# Altium footprint library mrsl.PcbLib: 215 footprints (part 13 of 14)
Each footprint in its own frame and in the unit in brackets; x right, y up, seen from the top. Pads: shape width x height; smd on the part's side, far side on the other; paste and mask are expansions set on the pad; w line width, h text height; cw(c..) or ccw(c..) is an arc to the next point about the centre after c.
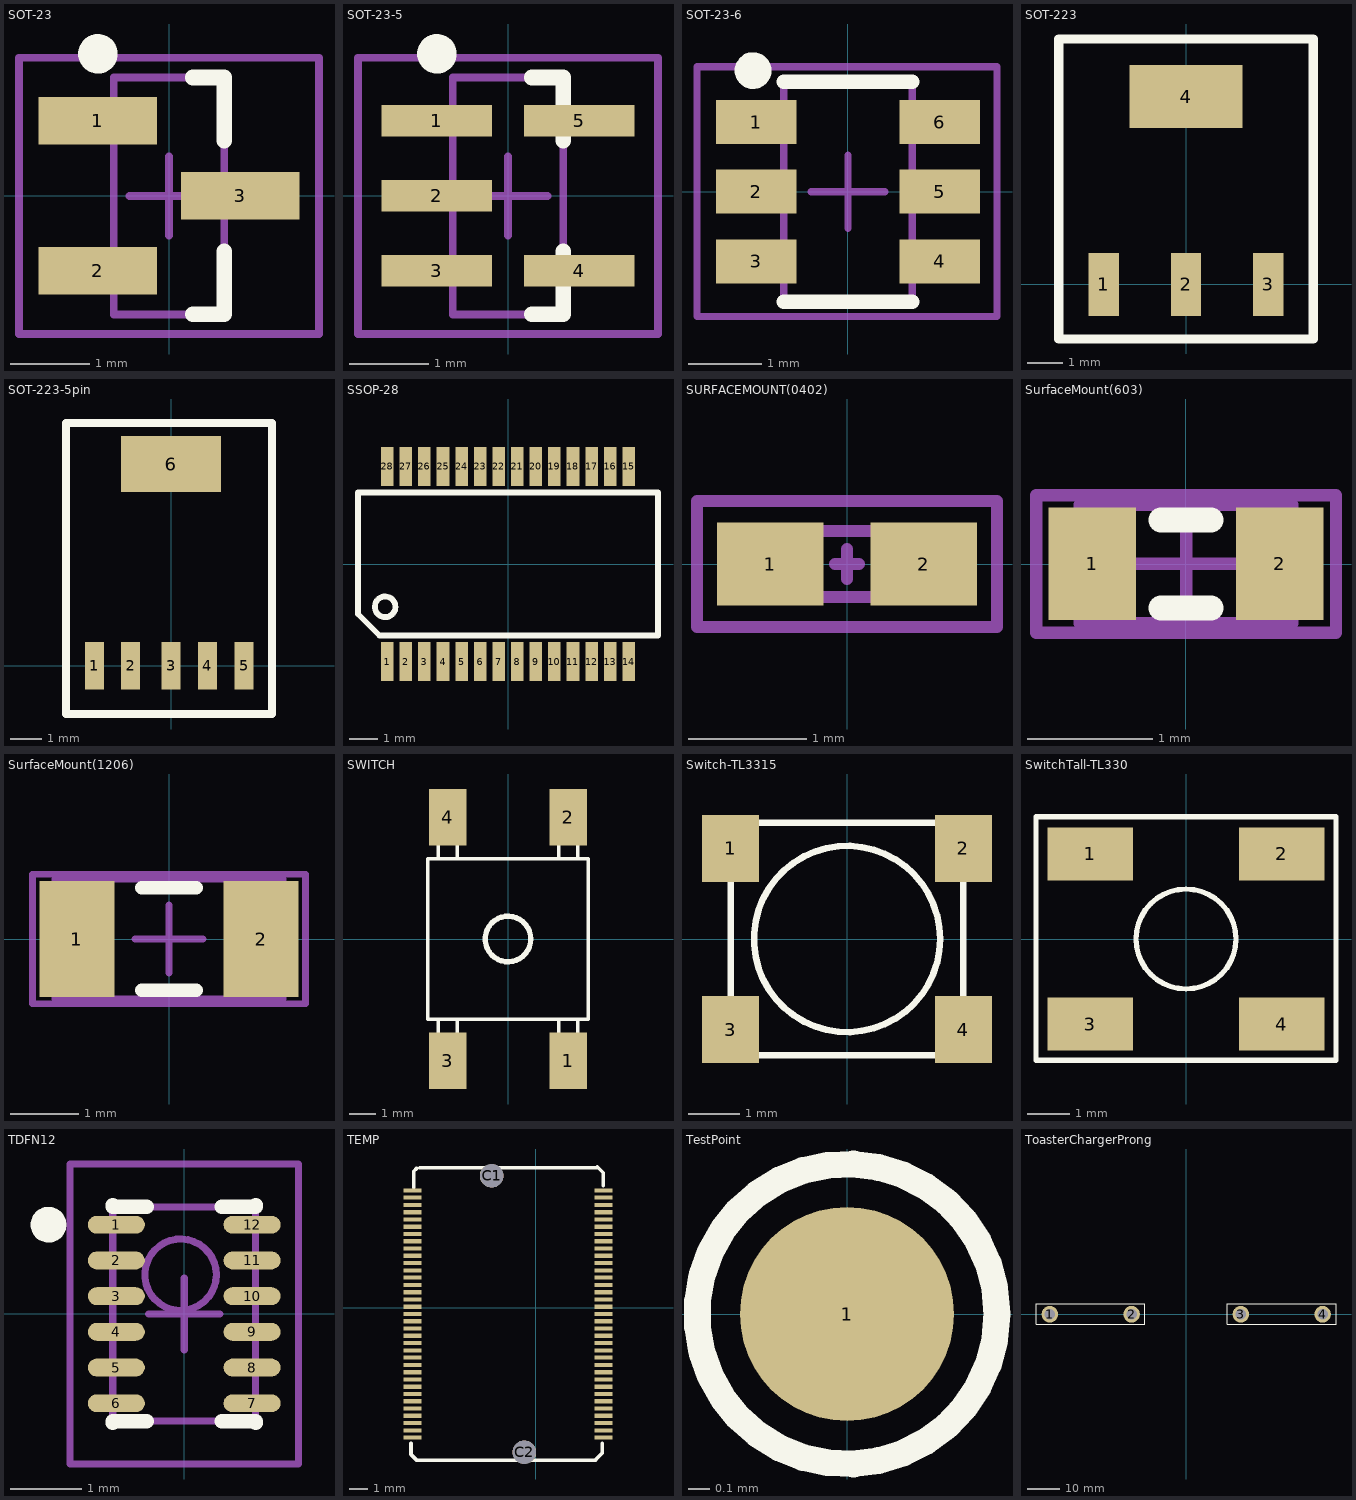
[diagram p12: the footprints below, top view; thin cyan lines are the x and y axes]

## SOT-23 [mm] "SOT23, 3-Leads, Body 3.0x2.5mm (max), Pitch 0.95mm, IPC Medium Density"
height 1.2
pads (3):
  rect 1.5x0.6 smd: 1(-0.9,0.95) 2(-0.9,-0.95) 3(0.9,0)
Top Overlay:
  circle w0.25: c-0.9,1.8 r0.125
  lines w0.2: 0.3,-1.5 0.7,-1.5 0.7,-0.7 ; 0.3,1.5 0.7,1.5 0.7,0.7
Mechanical 13:
  lines w0.1: -0.7,-1.5 -0.7,1.5 0.7,1.5 0.7,-1.5 -0.7,-1.5
Mechanical 15:
  lines w0.1: -0.5,0 0.5,0 ; 0,-0.5 0,0.5 ; -1.9,-1.75 -1.9,1.75 1.9,1.75 1.9,-1.75 -1.9,-1.75
3D body: height 1.2, standoff 0.01, extent -0.7,-1.5 0.7,1.5

## SOT-23-5 [mm] "A SOT-23 package with 5 pins"
pads (5):
  rect 1.4x0.4 smd: 1(-0.9,0.95) 2(-0.9,0) 3(-0.9,-0.95) 4(0.9,-0.95) 5(0.9,0.95)
Top Overlay:
  circle w0.25: c-0.9,1.8 r0.125
  lines w0.2: 0.3,-1.5 0.7,-1.5 0.7,-0.7 ; 0.3,1.5 0.7,1.5 0.7,0.7
Mechanical 13:
  lines w0.1: -0.7,-1.5 0.7,-1.5 0.7,1.5 -0.7,1.5 -0.7,-1.5
Mechanical 15:
  lines w0.1: -0.5,0 0.5,0 ; 0,-0.5 0,0.5 ; -1.9,-1.75 1.9,-1.75 1.9,1.75 -1.9,1.75 -1.9,-1.75
3D body: height 1.2, standoff 0.01, extent -0.7,-1.5 0.7,1.5

## SOT-23-6 [mm] "SOT23, 6-Leads, Body 3.0x2.5mm (max), Pitch 0.95mm, IPC Medium Density"
height 1.2
pads (6):
  rect 1.1x0.6 smd: 1(-1.25,0.95) 2(-1.25,0) 3(-1.25,-0.95) 4(1.25,-0.95) 5(1.25,0) 6(1.25,0.95)
Top Overlay:
  circle w0.25: c-1.293,1.651 r0.125
  lines w0.2: -0.875,-1.5 0.875,-1.5 ; -0.875,1.5 0.875,1.5
Mechanical 13:
  lines w0.1: -0.875,-1.5 0.875,-1.5 0.875,1.5 -0.875,1.5 -0.875,-1.5
Mechanical 15:
  lines w0.1: -0.5,0 0.5,0 ; 0,-0.5 0,0.5 ; -2.057,-1.702 2.032,-1.702 2.032,1.702 -2.057,1.702 -2.057,-1.702
3D body: height 1.45, standoff 0.01, extent -0.889,-1.5 0.864,1.5

## SOT-223 [mm]
pads (4):
  rect 0.85x1.75 smd: 1(-2.3,0) 2(0,0) 3(2.3,0)
  rect 3.15x1.75 smd: 4(0,5.25)
Top Overlay:
  lines w0.254: -3.556,-1.524 3.556,-1.524 3.556,6.858 -3.556,6.858 -3.556,-1.524

## SOT-223-5pin [mm] "sot223 tps73733"
pads (6):
  rect 0.6x1.5 smd: 1(-2.413,0) 2(-1.27,0) 3(0,0) 4(1.143,0) 5(2.3,0)
  rect 3.15x1.75 smd: 6(0,6.35)
Top Overlay:
  lines w0.254: -3.302,-1.524 3.175,-1.524 3.175,7.645 -3.302,7.645 -3.302,-1.524

## SSOP-28 [mm]
pads (28):
  rect 0.44x1.37 smd: 1(-4.225,-3.415) 2(-3.575,-3.415) 3(-2.925,-3.415) 4(-2.275,-3.415) 5(-1.625,-3.415) 6(-0.975,-3.415) 7(-0.325,-3.415) 8(0.325,-3.415) 9(0.975,-3.415) 10(1.625,-3.415) 11(2.275,-3.415) 12(2.925,-3.415) 13(3.575,-3.415) 14(4.225,-3.415) 15(4.225,3.415) 16(3.575,3.415) 17(2.925,3.415) 18(2.275,3.415) 19(1.625,3.415) 20(0.975,3.415) 21(0.325,3.415) 22(-0.325,3.415) 23(-0.975,3.415) 24(-1.625,3.415) 25(-2.275,3.415) 26(-2.925,3.415) 27(-3.575,3.415) 28(-4.225,3.415)
Top Overlay:
  circle w0.203: c-4.3,-1.5 r0.361
  lines w0.203: -5.25,-1.75 -5.25,2.5 5.25,2.5 5.25,-2.5 -4.5,-2.5 -5.25,-1.75

## SURFACEMOUNT(0402) [mm] "Chip Resistor; Body 1 x 0.5 mm (LxW typ)"
height 0.55
pads (2):
  rect 0.9x0.7 smd: 1(-0.65,0) 2(0.65,0)
Mechanical 13:
  lines w0.1: -0.864,-0.279 -0.864,0.279 0.889,0.279 0.889,-0.279 -0.864,-0.279
Mechanical 15:
  lines w0.1: -0.102,0 0.102,0 ; 0,-0.127 0,0.127 ; -1.27,-0.533 -1.27,0.533 1.27,0.533 1.27,-0.533 -1.27,-0.533

## SurfaceMount(603) [mm]
pads (2):
  rect 0.7x0.9 smd: 1(-0.75,0) 2(0.75,0)
Top Overlay:
  lines w0.2: -0.2,-0.35 0.2,-0.35 ; -0.2,0.35 0.2,0.35
Mechanical 13:
  lines w0.1: -0.85,-0.475 0.85,-0.475 0.85,0.475 -0.85,0.475 -0.85,-0.475
Mechanical 15:
  lines w0.1: -0.475,0 0.475,0 ; 0,-0.475 0,0.475 ; -1.2,-0.55 1.2,-0.55 1.2,0.55 -1.2,0.55 -1.2,-0.55
3D body: height 0.9, standoff 0, extent -0.85,-0.475 0.85,0.475

## SurfaceMount(1206) [mm]
pads (2):
  rect 1.1x1.7 smd: 1(-1.35,0) 2(1.35,0)
Top Overlay:
  lines w0.2: -0.4,-0.75 0.4,-0.75 ; -0.4,0.75 0.4,0.75
Mechanical 13:
  lines w0.1: -1.675,-0.875 -1.675,0.875 1.675,0.875 1.675,-0.875 -1.675,-0.875
Mechanical 15:
  lines w0.1: -0.5,0 0.5,0 ; 0,-0.5 0,0.5 ; -2,-0.95 -2,0.95 2,0.95 2,-0.95 -2,-0.95
3D body: height 2.54, standoff 0, extent -1.675,-0.875 1.675,0.875

## SWITCH [mm]
pads (4):
  rect 1.4x2.1 smd: 1(2.25,-4.55) 2(2.25,4.55) 3(-2.25,-4.55) 4(-2.25,4.55)
Top Overlay:
  circle w0.2: c0,0 r0.851
  lines w0.127: -2.6,-3.55 -2.6,-3 ; -2.6,3 -2.6,3.55 ; -1.9,-3.55 -1.9,-3 ; -1.9,3 -1.9,3.55 ; 1.9,-3.55 1.9,-3 ; 1.9,3 1.9,3.55 ; 2.6,-3.55 2.6,-3 ; 2.6,3 2.6,3.55 ; -3,-3 -3,3 3,3 3,-3 -3,-3

## Switch-TL3315 [mm] "Small SMD Tact Switch E-Switch TL3315"
height 2
pads (4):
  rect 1.1x1.3 smd: 1(-2.25,1.75) 2(2.25,1.75) 3(-2.25,-1.75) 4(2.25,-1.75)
Top Overlay:
  circle w0.127: c0,0 r1.8
  lines w0.127: -2.25,-2.25 2.25,-2.25 2.25,2.25 -2.25,2.25 -2.25,-2.25

## SwitchTall-TL330 [mil] "Small SMDTall Tact Switch E-Switch TL330"
height 78.74
pads (4):
  rect 80x50 smd: 1(-90,80) 2(90,80) 3(-90,-80) 4(90,-80)
Top Overlay:
  circle w5: c0,0 r47
  lines w5: -141,-114 -141,115 141,115 141,-114 -141,-114

## TDFN12 [mm] "power supervisor"
height 0.8
pads (12):
  oval 0.8x0.25 smd: 1(-0.95,1.25) 2(-0.95,0.75) 3(-0.95,0.25) 4(-0.95,-0.25) 5(-0.95,-0.75) 6(-0.95,-1.25) 7(0.95,-1.25) 8(0.95,-0.75) 9(0.95,-0.25) 10(0.95,0.25) 11(0.95,0.75) 12(0.95,1.25)
Top Overlay:
  circle w0.25: c-1.9,1.25 r0.125
  lines w0.2: -1,-1.525 -1,-1.5 -0.525,-1.5 ; -1,1.525 -1,1.5 -0.525,1.5 ; 0.525,-1.5 1,-1.5 1,-1.525 ; 0.525,1.5 1,1.5 1,1.525
Mechanical 13:
  circle w0.1: c-0.05,0.55 r0.5
  lines w0.1: -1,-1.5 1,-1.5 1,1.5 -1,1.5 -1,-1.5
Mechanical 15:
  lines w0.1: -0.5,0 0.5,0 ; 0,-0.5 0,0.5 ; -1.6,-2.1 1.6,-2.1 1.6,2.1 -1.6,2.1 -1.6,-2.1
3D body: height 0.8, standoff 0.08, extent -1,-1.5 1,1.5

## TEMP [mm]
pads (72):
  rect 1x0.23 smd: 1(-6.774,6.47) 2(-6.774,6.07) 3(-6.774,5.67) 4(-6.774,5.27) 5(-6.774,4.87) 6(-6.774,4.47) 7(-6.774,4.07) 8(-6.774,3.67) 9(-6.774,3.27) 10(-6.774,2.87) 11(-6.774,2.47) 12(-6.774,2.07) 13(-6.774,1.67) 14(-6.774,1.27) 15(-6.774,0.87) 16(-6.774,0.47) 17(-6.774,0.07) 18(-6.774,-0.33) 19(-6.774,-0.73) 20(-6.774,-1.13) 21(-6.774,-1.53) 22(-6.774,-1.93) 23(-6.774,-2.33) 24(-6.774,-2.73) 25(-6.774,-3.13) 26(-6.774,-3.53) 27(-6.774,-3.93) 28(-6.774,-4.33) 29(-6.774,-4.73) 30(-6.774,-5.13) 31(-6.774,-5.53) 32(-6.774,-5.93) 33(-6.774,-6.33) 34(-6.774,-6.73) 35(-6.774,-7.13) 36(3.726,-7.13) 37(3.726,-6.73) 38(3.726,-6.33) 39(3.726,-5.93) 40(3.726,-5.53) 41(3.726,-5.13) 42(3.726,-4.73) 43(3.726,-4.33) 44(3.726,-3.93) 45(3.726,-3.53) 46(3.726,-3.13) 47(3.726,-2.73) 48(3.726,-2.33) 49(3.726,-1.93) 50(3.726,-1.53) 51(3.726,-1.13) 52(3.726,-0.73) 53(3.726,-0.33) 54(3.726,0.07) 55(3.726,0.47) 56(3.726,0.87) 57(3.726,1.27) 58(3.726,1.67) 59(3.726,2.07) 60(3.726,2.47) 61(3.726,2.87) 62(3.726,3.27) 63(3.726,3.67) 64(3.726,4.07) 65(3.726,4.47) 66(3.726,4.87) 67(3.726,5.27) 68(3.726,5.67) 69(3.726,6.07) 70(3.726,6.47)
  round 1.3 hole 1.3: C1(-2.424,7.27) C2(-0.624,-7.93)
Top Overlay:
  lines w0.2: -6.858,-7.442 -6.858,-8.052 -6.528,-8.382 ; -6.706,6.604 -6.706,7.518 -6.553,7.671 ; -6.528,-8.38 3.302,-8.38 ; -6.375,7.72 3.378,7.72 ; 3.251,-8.382 3.658,-7.976 3.658,-7.442 ; 3.378,7.772 3.708,7.442 3.708,6.731

## TestPoint [mil]
pads (1):
  round 40 smd: 1(0,0)
Top Overlay:
  circle w5: c0,0 r28

## ToasterChargerProng [mm] "PCB footprint for toaster Charger clips"
pads (4):
  round 5.08 hole 3.175: 1(-41.468,0) 2(-16.627,0) 3(16.627,0) 4(41.468,0)
Top Overlay:
  lines w0.254: -45.684,-3.048 -45.684,3.175 -12.537,3.175 ; -45.557,-3.048 -12.537,-3.048 -12.537,3.206 ; 12.41,-3.048 12.41,3.175 45.557,3.175 ; 12.537,-3.048 45.557,-3.048 45.557,3.206